# EAGLE library part LOGIC_7404 (library akita)
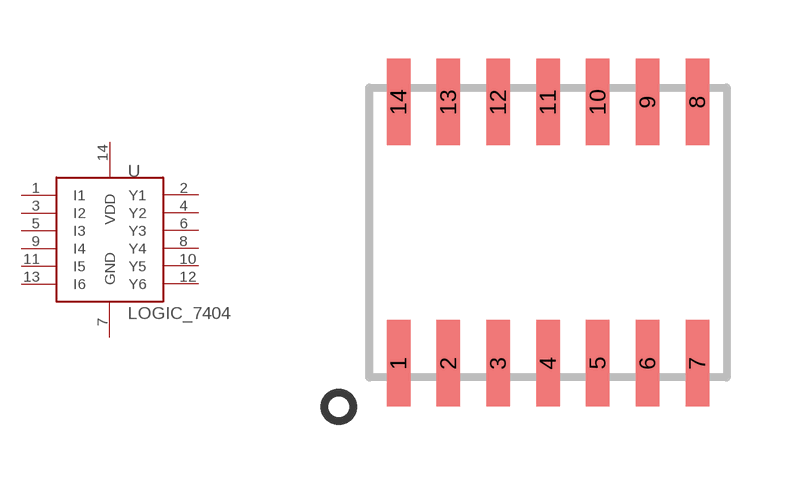
[diagram p122: symbol with the pads of SOIC14; footprint SOIC14]

Designator prefix U

## LOGIC_7404SO  [SOIC14]
1  I1
2  Y1
3  I2
4  Y2
5  I3
6  Y3
7  GND
8  Y4
9  I4
10  Y5
11  I5
12  Y6
13  I6
14  VDD

## Footprint SOIC14 (pad centres in mm)
smd 0.6 x 2.2: 1 -3.81,-3.33; 2 -2.54,-3.33; 3 -1.27,-3.33; 4 0,-3.33; 5 1.27,-3.33; 6 2.54,-3.33; 7 3.81,-3.33; 8 3.81,3.33; 9 2.54,3.33; 10 1.27,3.33; 11 0,3.33; 12 -1.27,3.33; 13 -2.54,3.33; 14 -3.81,3.33